# EAGLE library part MDR_R_14G (library Con-MDR-Centronics)
14 pin MDR with ground
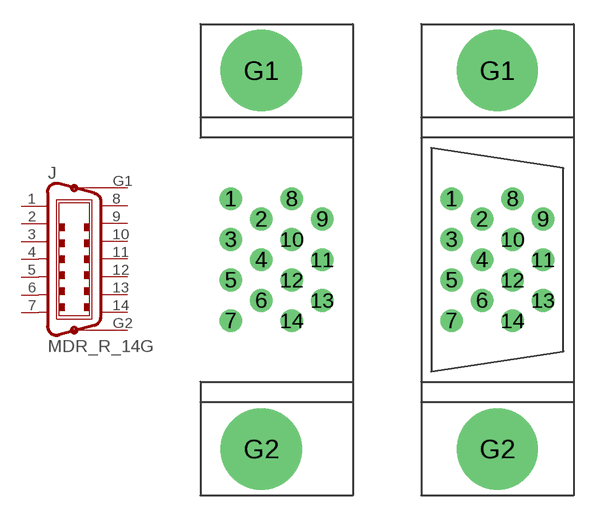
[diagram p4: symbol with the pads of CON_R_14GH; footprints CON_R_14GH, MDR_R_14GV]

Designator prefix J

## MDR_R_14GH  [CON_R_14GH]
1  1  pas
2  2  pas
3  3  pas
4  4  pas
5  5  pas
6  6  pas
7  7  pas
8  8  pas
9  9  pas
10  10  pas
11  11  pas
12  12  pas
13  13  pas
14  14  pas
G1  G  pas
G2  G1  pas

## MDR_R_14GV  [MDR_R_14GV]
Pads as for CON_R_14GH

## Footprint CON_R_14GH (pad centres in mm)
drill 0.8 pad 1.422 round: 1 -3.81,3.81; 2 -1.905,2.54; 3 -3.81,1.27; 4 -1.905,0; 5 -3.81,-1.27; 6 -1.905,-2.54; 7 -3.81,-3.81; 8 0,3.81; 9 1.905,2.54; 10 0,1.27; 11 1.905,0; 12 0,-1.27; 13 1.905,-2.54; 14 0,-3.81
drill 2.794 pad 5.08 round: G1 -1.905,11.824; G2 -1.905,-11.824

## Footprint MDR_R_14GV (pad centres in mm)
drill 0.8 pad 1.422 round: 1 -3.81,3.81; 2 -1.905,2.54; 3 -3.81,1.27; 4 -1.905,0; 5 -3.81,-1.27; 6 -1.905,-2.54; 7 -3.81,-3.81; 8 0,3.81; 9 1.905,2.54; 10 0,1.27; 11 1.905,0; 12 0,-1.27; 13 1.905,-2.54; 14 0,-3.81
drill 2.794 pad 5.08 round: G1 -0.953,11.824; G2 -0.953,-11.824